# EAGLE library part UEI15 (library murata)
The Murata UEI15 is an isolated wide input range 15W DC/DC Converter https://power.murata.com/data/power/mdc_uei-15w.pdf
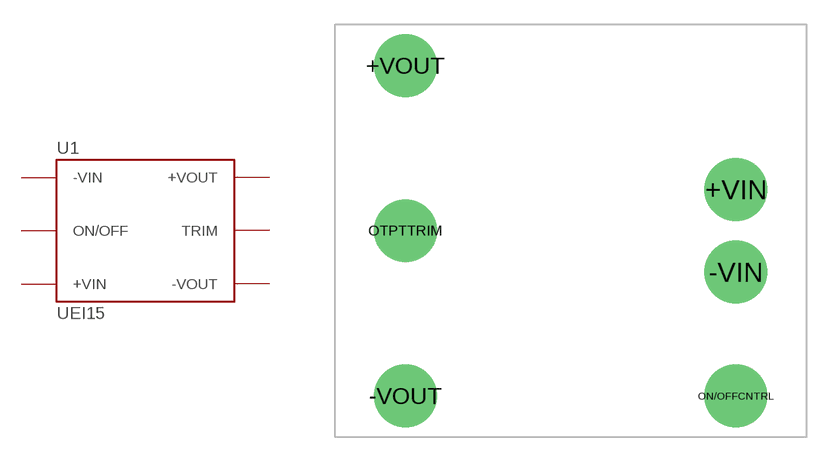
[diagram p2: symbol with the pads of UEI15; footprint UEI15]

Designator prefix U1

## UEI15  [UEI15]
+VIN  +VIN  pwr
+VOUT  +VOUT  pwr
-VIN  -VIN  pwr
-VOUT  -VOUT  pwr
ON/OFFCNTRL  ON/OFF
OTPTTRIM  TRIM

## Footprint UEI15 (pad centres in mm)
Description: This footprint is untested! Used with the Murata UEI15.
drill 2.845: +VIN 10.16,2.54; +VOUT -10.16,10.16; -VIN 10.16,-2.54; -VOUT -10.16,-10.16; ON/OFFCNTRL 10.16,-10.16; OTPTTRIM -10.16,0